# EAGLE library part ATMEGA328 (library group10)
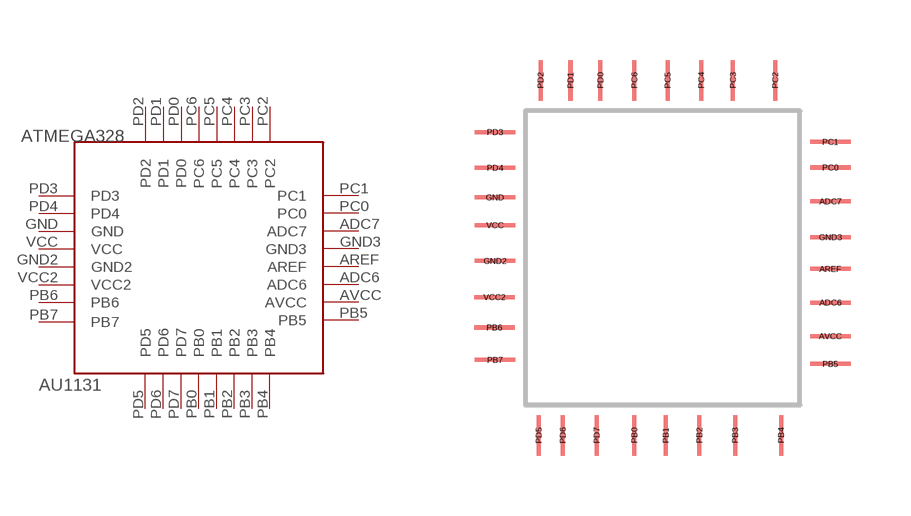
[diagram p1: symbol with the pads of TQFP-32A; footprint TQFP-32A]

Designator prefix -

## ATMEGA328  [TQFP-32A]
ADC6  ADC6
ADC7  ADC7
AREF  AREF
AVCC  AVCC
GND  GND
GND2  GND2
GND3  GND3
PB0  PB0
PB1  PB1
PB2  PB2
PB3  PB3
PB4  PB4
PB5  PB5
PB6  PB6
PB7  PB7
PC0  PC0
PC1  PC1
PC2  PC2
PC3  PC3
PC4  PC4
PC5  PC5
PC6  PC6
PD0  PD0
PD1  PD1
PD2  PD2
PD3  PD3
PD4  PD4
PD5  PD5
PD6  PD6
PD7  PD7
VCC  VCC
VCC2  VCC2

## Footprint TQFP-32A (pad centres in mm)
smd 1.016 x 0.102: ADC6 9.692,2.382; ADC7 9.692,4.91; AREF 9.692,3.222; AVCC 9.692,1.542; GND 1.308,5.01; GND2 1.308,3.422; GND3 9.692,4.016; PB5 9.692,0.848; PB6 1.292,1.758; PB7 1.308,0.948; PC0 9.692,5.758; PC1 9.692,6.398; PD3 1.308,6.644; PD4 1.308,5.75; VCC 1.308,4.316; VCC2 1.292,2.518
smd 0.102 x 1.016: PB0 4.792,-0.938; PB1 5.578,-0.938; PB2 6.418,-0.938; PB3 7.312,-0.938; PB4 8.46,-0.938; PC2 8.314,7.938; PC3 7.258,7.938; PC4 6.464,7.938; PC5 5.624,7.938; PC6 4.792,7.938; PD0 3.944,7.938; PD1 3.196,7.938; PD2 2.448,7.938; PD5 2.402,-0.938; PD6 3.004,-0.938; PD7 3.852,-0.938